# Altium schematic symbol library RC0402JR-071KL.SchLib: 2 symbols
Pins are listed as number, name and electrical type; pins without a type are passive.

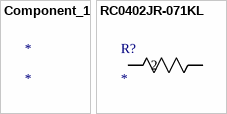
[diagram p0: symbols Component_1 to RC0402JR-071KL]

## Component_1
designator *

## RC0402JR-071KL
designator R?
No Description Available; Mfr_Name: Yageo
footprint RC0402N_YAG
pins: 1, 2